# EAGLE library part HEADER_01X21 (library MF_Connectors)
Library: MF_Connectors Description: Header Connector with 21 Positions and 01 Rows. Use the LABEL Attribute to label the pin on the schematic and PCB. You can remove the attributes on the PCB by using the SMASH function on the part and then deleting the text.
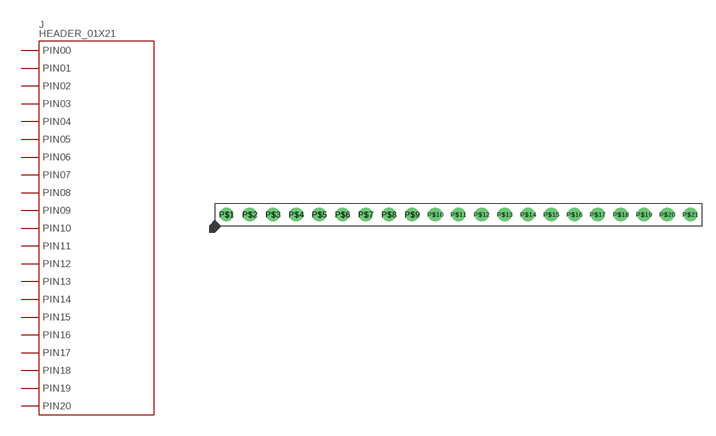
[diagram p17: symbol with the pads of PTH_2.54MM_01X21; footprint PTH_2.54MM_01X21]

Designator prefix J

## HEADER_01X21_PTH_2.54MM  [PTH_2.54MM_01X21]
P$1  PIN0
P$2  PIN1
P$3  PIN2
P$4  PIN3
P$5  PIN4
P$6  PIN5
P$7  PIN6
P$8  PIN7
P$9  PIN8
P$10  PIN9
P$11  PIN10
P$12  PIN11
P$13  PIN12
P$14  PIN13
P$15  PIN14
P$16  PIN15
P$17  PIN16
P$18  PIN17
P$19  PIN18
P$20  PIN19
P$21  PIN20

## Footprint PTH_2.54MM_01X21 (pad centres in mm)
Description: Package for 2.54MM Pitch Header 21 Position. Based on 4UCON 00834.
drill 1: P$1 -25.4,0; P$2 -22.86,0; P$3 -20.32,0; P$4 -17.78,0; P$5 -15.24,0; P$6 -12.7,0; P$7 -10.16,0; P$8 -7.62,0; P$9 -5.08,0; P$10 -2.54,0; P$11 0,0; P$12 2.54,0; P$13 5.08,0; P$14 7.62,0; P$15 10.16,0; P$16 12.7,0; P$17 15.24,0; P$18 17.78,0; P$19 20.32,0; P$20 22.86,0; P$21 25.4,0